# Altium schematic symbol library Main Board.SCHLIB: 63 symbols (part 1 of 3)
Pins are listed as number, name and electrical type; pins without a type are passive.

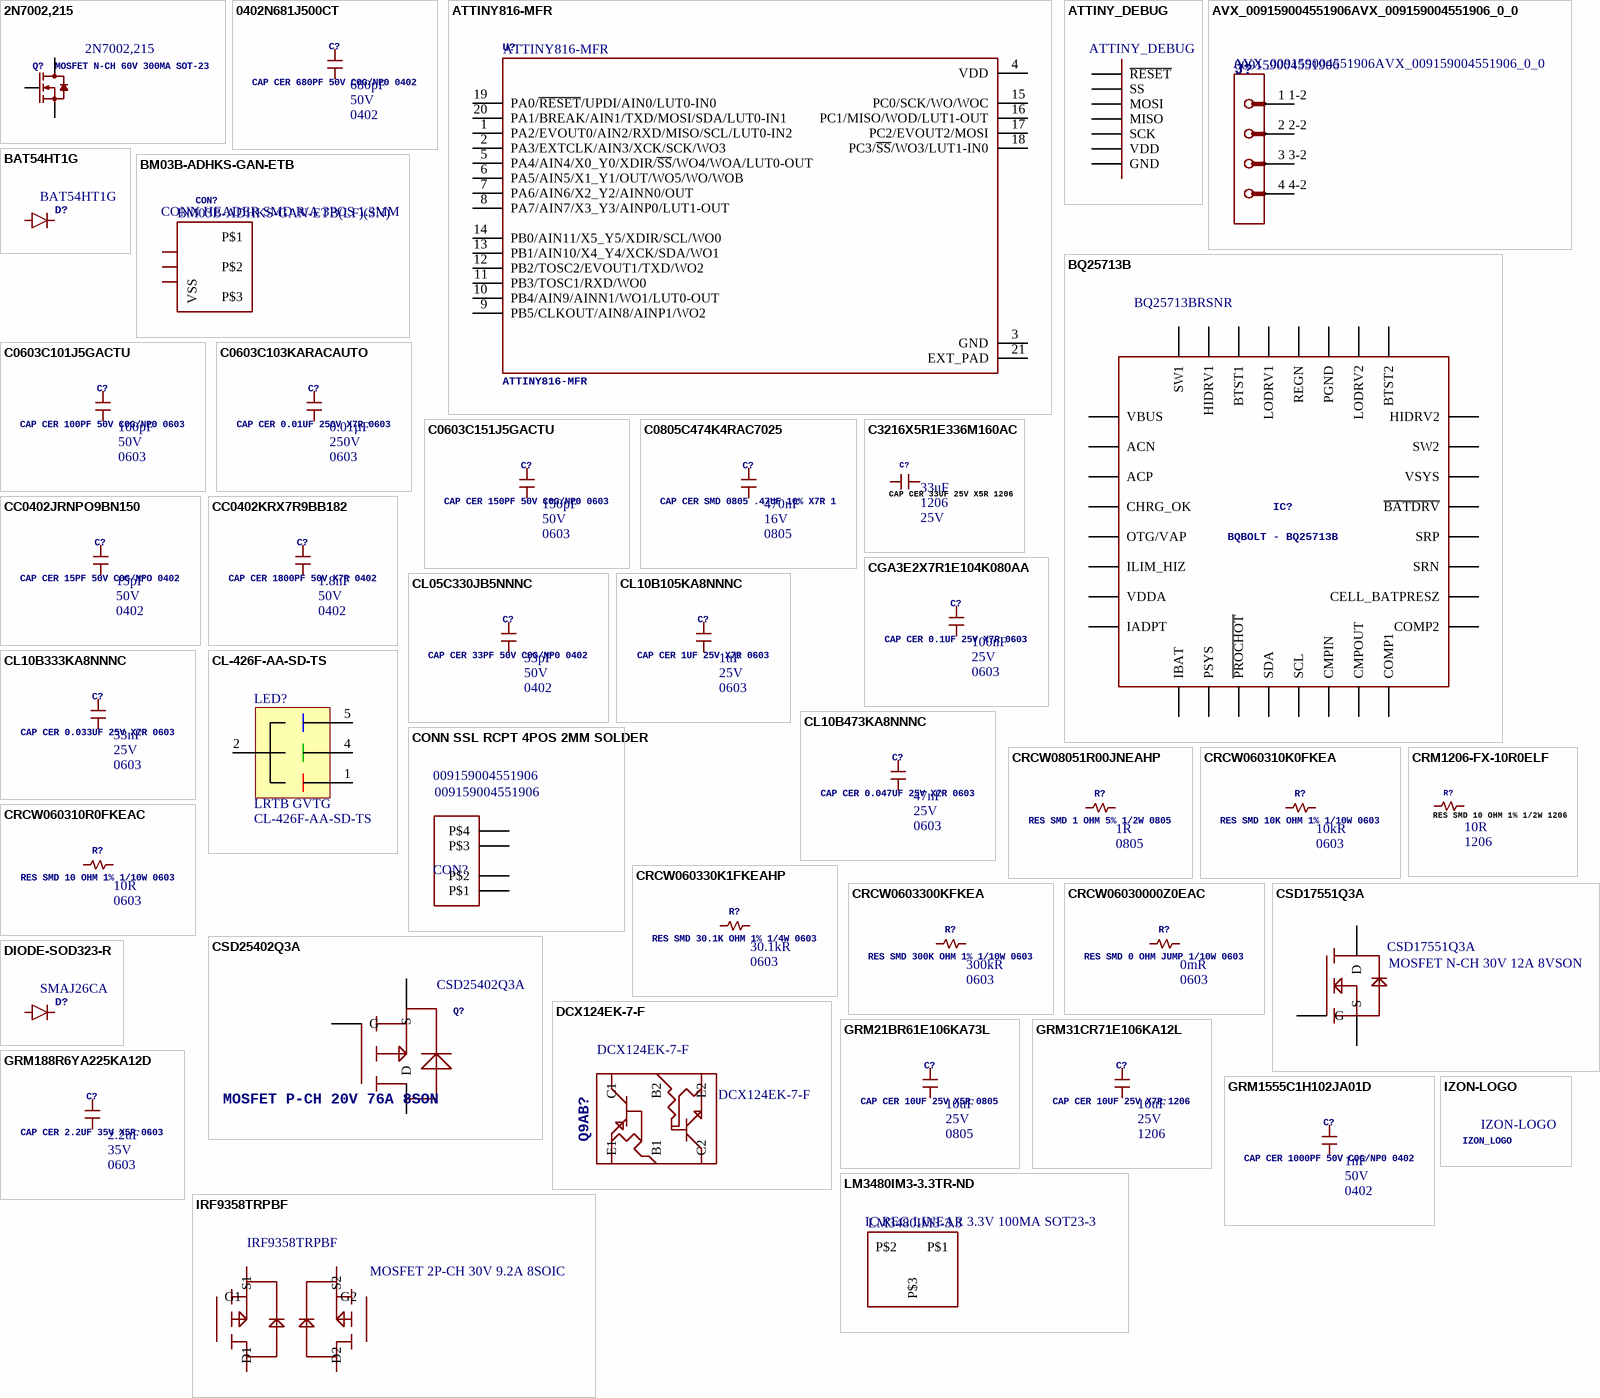
[diagram p0: symbols 2N7002,215 to LM3480IM3-3.3TR-ND]

## 2N7002,215
designator Q?, comment MOSFET N-CH 60V 300MA SOT-23  Manufacturer Part Number: 2N7002,215
N-Channel 60V 300mA (Ta) 830mW (Ta) Surface Mount TO-236AB; Manufacturer: Nexperia; Supplier 1: Digi-Key; Stock 1: 563931; Pricing 1: 1 = 0.25000, 10 = 0.22700, 100 = 0.12690, 500 = 0.06798, 1000 = 0.04623 (USD); RoHS: No; ComponentLink1URL: http://www.farnell.com/datasheets/1499179.pdf?src-supplier=Farnell; ComponentLink1Description: http://www.farnell.com/datasheets/1499179.pdf?src-supplier=Farnell; ComponentLink2URL: http://www.farnell.com/datasheets/1499179.pdf?src-supplier=Newark; ComponentLink2Description: http://www.farnell.com/datasheets/1499179.pdf?src-supplier=Newark; ComponentLink3URL: https://assets.nexperia.com/documents/data-sheet/2N7002.pdf?src-supplier=Digi-Key; ComponentLink3Description: https://assets.nexperia.com/documents/data-sheet/2N7002.pdf?src-supplier=Digi-Key; Supplier Part Number 1: 1727-2764-1-ND
footprint SOT-23
pins: 1 G, 2 S, 3 D

## 0402N681J500CT
designator C?, comment CAP CER 680PF 50V C0G/NP0 0402  Voltage: 50V  Package: 0402  Capacitance: 680pF
680pF ±5% 50V Ceramic Capacitor C0G, NP0 0402 (1005 Metric); Manufacturer: Walsin Technologies; Manufacturer Part Number: 0402N681J500CT; Supplier 1: Digi-Key; Stock 1: 8787; Pricing 1: 1 = 0.10000, 10 = 0.06600, 100 = 0.02940, 500 = 0.02100, 1000 = 0.01650, 2500 = 0.01500, 5000 = 0.01380 (USD); RoHS: Yes; Min Operating Temperature: -55°C; Max Operating Temperature: 125°C; Packaging: Tape and Reel; Tolerance: 5%; Dielectric: C0G; Length: 1mm; Depth: 0.5mm; Radiation Hardening: No; ComponentLink1URL: https://datasheet.ciiva.com/18163/getdatasheetpartid-474151-18163447.pdf?src-supplier=Verical; ComponentLink1Description: https://datasheet.ciiva.com/18163/getdatasheetpartid-474151-18163447.pdf?src-supplier=Verical; Supplier Part Number 1: 1292-1346-1-ND; Case/Package: Ceramic
footprint 0402
pins: P$1, P$2

## ATTINY816-MFR
designator U?
Mcu, 8bit, Pic24fj, 20mhz, Qfn-20; Manufacturer: Microchip; Supplier 1: Digi-Key; Stock 1: 7121; Pricing 1: 1 = 0.73000, 25 = 0.66960, 100 = 0.60770 (USD); RoHS: No; ComponentLink1URL: http://www.farnell.com/datasheets/2182719.pdf?src-supplier=Farnell; ComponentLink1Description: http://www.farnell.com/datasheets/2182719.pdf?src-supplier=Farnell; ComponentLink2URL: http://www.microchip.com/mymicrochip/filehandler.aspx?ddocname=en599406&src-supplier=Digi-Key; ComponentLink2Description: http://www.microchip.com/mymicrochip/filehandler.aspx?ddocname=en599406&src-supplier=Digi-Key; Supplier Part Number 1: ATTINY816-MFRCT-ND; Manufacturer Part Number: ATTINY816-MFR
footprint QFN40P300X300X90-21N
pins: 1 PA2/EVOUT0/AIN2/RXD/MISO/SCL/LUT0-IN2, 2 PA3/EXTCLK/AIN3/XCK/SCK/WO3, 3 GND (power), 4 VDD (power), 5 PA4/AIN4/X0_Y0/XDIR/~{SS}/WO4/WOA/LUT0-OUT, 6 PA5/AIN5/X1_Y1/OUT/WO5/WO/WOB, 7 PA6/AIN6/X2_Y2/AINN0/OUT, 8 PA7/AIN7/X3_Y3/AINP0/LUT1-OUT, 9 PB5/CLKOUT/AIN8/AINP1/WO2, 10 PB4/AIN9/AINN1/WO1/LUT0-OUT, 11 PB3/TOSC1/RXD/WO0, 12 PB2/TOSC2/EVOUT1/TXD/WO2, 13 PB1/AIN10/X4_Y4/XCK/SDA/WO1, 14 PB0/AIN11/X5_Y5/XDIR/SCL/WO0, 15 PC0/SCK/WO/WOC, 16 PC1/MISO/WOD/LUT1-OUT, 17 PC2/EVOUT2/MOSI, 18 PC3/~{SS}/WO3/LUT1-IN0, 19 PA0/~{RESET}/UPDI/AIN0/LUT0-IN0, 20 PA1/BREAK/AIN1/TXD/MOSI/SDA/LUT0-IN1, 21 EXT_PAD (power)

## ATTINY_DEBUG
designator U$?
GateName_1: G$1; SymbolName_1: ATTINY_DEBUG; LibraryName: Roambotics; DeviceSetName: ATTINY_DEBUG
footprint ATTINY_DEBUG
pins: P$1 GND, P$2 VDD, P$3 SCK, P$4 MISO, P$5 MOSI, P$6 SS, P$7 ~{RESET}

## AVX_009159004551906AVX_009159004551906_0_0
designator J?  Manufacturer Part Number: 009159004551906
SSL Connector 4 Position Receptacle Board to Board - Card Edge 0.079" (2.00mm) Solder; Manufacturer: Kyocera AVX; Voltage Rating: 300V; Current Rating: 2A; Mating Cycles: 10; Number of Positions: 4; Pitch: 0.079inch; Row Spacing: 6.5mm; Supplier 1: Digi-Key; Stock 1: 2642; Pricing 1: 1 = 1.01000, 10 = 0.89200, 25 = 0.83960, 50 = 0.80460, 100 = 0.76960, 250 = 0.69960 (USD); RoHS: Yes; Mount: Surface Mount; Contact Material: Copper Alloy; Contact Plating: Gold; Housing Color: White; Housing Material: Nylon; Min Operating Temperature: -40°C; Max Operating Temperature: 120°C; Number of Rows: 1; Packaging: Tape and Reel; Package Quantity: 900; Connector Type: Receptacle; Termination: SMD/SMT; Gender: Receptacle; Number of Contacts: 4; REACH SVHC: No SVHC; ComponentLink1URL: https://datasheet.ciiva.com/29706/topentrycardedge-29706485.pdf?src-supplier=Digi-Key; ComponentLink1Description: https://datasheet.ciiva.com/29706/topentrycardedge-29706485.pdf?src-supplier=Digi-Key; Supplier Part Number 1: 478-8738-1-ND
footprint AVX_009159004551906_0 (Footprint not found)
pins: 1 1-2 1, 2 2-2 2, 3 3-2 3, 4 4-2 4

## BAT54HT1G
designator D?, comment Manufacturer Part Number: BAT54HT1G  (hidden comment: DIODE SCHOTTKY 30V 200MA SOD323)
Diode Schottky 30V 200mA (DC) Surface Mount SOD-323; Manufacturer: ON Semiconductor / Fairchild; Forward Voltage: 800mV; Recovery Time: 5ns; Peak Non-Repetitive Surge Current: 600mA; Element Configuration: Single; Peak Reverse Current: 2uA; Power Dissipation: 200mW; Polarity: Standard; Capacitance: 10pF; Supplier 1: Digi-Key; Stock 1: 899716; Pricing 1: 1 = 0.25000, 10 = 0.20500, 100 = 0.10860, 500 = 0.07148, 1000 = 0.04860 (USD); RoHS: Yes; Mount: Surface Mount; Number of Pins: 2; Contact Plating: Tin; Min Operating Temperature: -55°C; Max Operating Temperature: 150°C; Packaging: Tape and Reel; Forward Current: 200mA; Package Quantity: 3000; Average Rectified Current: 200mA; Reverse Recovery Time: 5ns; Max Repetitive Reverse Voltage (Vrrm): 30V; Max Forward Surge Current (Ifsm): 600mA; Max Reverse Voltage (DC): 30V; Max Surge Current: 600mA; Voltage Rating (DC): 30V; Current Rating: 200mA; Output Current: 200mA; Reverse Voltage: 30V; Max Reverse Leakage Current: 2uA; Length: 1.8mm; Height: 1mm; Width: 1.35mm; Radiation Hardening: No; Lead Free: Lead Free; REACH SVHC: No SVHC; ComponentLink1URL: https://datasheet.ciiva.com/8303/bat54ht1g-8303712.pdf?src-supplier=Avnet; ComponentLink1Description: https://datasheet.ciiva.com/8303/bat54ht1g-8303712.pdf?src-supplier=Avnet; ComponentLink2URL: https://datasheet.ciiva.com/4452/bat54ht1g-104602-4452889.pdf?src-supplier=Mouser; ComponentLink2Description: https://datasheet.ciiva.com/4452/bat54ht1g-104602-4452889.pdf?src-supplier=Mouser; ComponentLink3URL: https://datasheet.ciiva.com/30479/0900766b811a63a9-30479442.pdf?src-supplier=RSComponents; ComponentLink3Description: https://datasheet.ciiva.com/30479/0900766b811a63a9-30479442.pdf?src-supplier=RSComponents; ComponentLink4URL: https://datasheet.ciiva.com/1240/1747983-1240762.pdf?src-supplier=Newark; ComponentLink4Description: https://datasheet.ciiva.com/1240/1747983-1240762.pdf?src-supplier=Newark; ComponentLink5URL: https://datasheet.ciiva.com/34301/806549-34301562.pdf?src-supplier=Jameco; ComponentLink5Description: https://datasheet.ciiva.com/34301/806549-34301562.pdf?src-supplier=Jameco; ComponentLink6URL: https://datasheet.ciiva.com/4714/bat54ht1-d-72881-4714706.pdf?src-supplier=Mouser; ComponentLink6Description: https://datasheet.ciiva.com/4714/bat54ht1-d-72881-4714706.pdf?src-supplier=Mouser; ComponentLink7URL: https://datasheet.ciiva.com/46429/1727620-46429206.pdf?src-supplier=Element14; ComponentLink7Description: https://datasheet.ciiva.com/46429/1727620-46429206.pdf?src-supplier=Element14; ComponentLink8URL: https://datasheet.ciiva.com/915/bat54ht1-d-915443.pdf?src-supplier=Digi-Key; ComponentLink8Description: https://datasheet.ciiva.com/915/bat54ht1-d-915443.pdf?src-supplier=Digi-Key; ComponentLink9URL: https://datasheet.ciiva.com/910/bat54ht1g-910497.pdf?src-supplier=Digi-Key; ComponentLink9Description: https://datasheet.ciiva.com/910/bat54ht1g-910497.pdf?src-supplier=Digi-Key; ComponentLink10URL: https://datasheet.ciiva.com/910/bat54ht1g-910498.pdf?src-supplier=Digi-Key; ComponentLink10Description: https://datasheet.ciiva.com/910/bat54ht1g-910498.pdf?src-supplier=Digi-Key; ComponentLink11URL: https://datasheet.ciiva.com/17020/bat54ht1g-17020445.pdf?src-supplier=Future+Electronics; ComponentLink11Description: https://datasheet.ciiva.com/17020/bat54ht1g-17020445.pdf?src-supplier=Future+Electronics; ComponentLink12URL: https://datasheet.ciiva.com/8303/bat54ht1g-8303645.pdf?src-supplier=Avnet; ComponentLink12Description: https://datasheet.ciiva.com/8303/bat54ht1g-8303645.pdf?src-supplier=Avnet; ComponentLink13URL: https://datasheet.ciiva.com/8294/bat54ht1-d-8294645.pdf?src-supplier=Avnet; ComponentLink13Description: https://datasheet.ciiva.com/8294/bat54ht1-d-8294645.pdf?src-supplier=Avnet; ComponentLink14URL: https://datasheet.ciiva.com/915/bat54ht1-d-915445.pdf?src-supplier=Digi-Key; ComponentLink14Description: https://datasheet.ciiva.com/915/bat54ht1-d-915445.pdf?src-supplier=Digi-Key; ComponentLink15URL: https://datasheet.ciiva.com/915/bat54ht1-d-915444.pdf?src-supplier=Digi-Key; ComponentLink15Description: https://datasheet.ciiva.com/915/bat54ht1-d-915444.pdf?src-supplier=Digi-Key; ComponentLink16URL: https://datasheet.ciiva.com/910/bat54ht1g-910499.pdf?src-supplier=Digi-Key; ComponentLink16Description: https://datasheet.ciiva.com/910/bat54ht1g-910499.pdf?src-supplier=Digi-Key; ComponentLink17URL: https://datasheet.ciiva.com/1180/bat54ht1-d-1180251.pdf?src-supplier=Element14; ComponentLink17Description: https://datasheet.ciiva.com/1180/bat54ht1-d-1180251.pdf?src-supplier=Element14; ComponentLink18URL: https://datasheet.ciiva.com/1180/bat54ht1-d-1180252.pdf?src-supplier=Element14; ComponentLink18Description: https://datasheet.ciiva.com/1180/bat54ht1-d-1180252.pdf?src-supplier=Element14; ComponentLink19URL: https://datasheet.ciiva.com/48686/001262925-da-01-en-diode-schottky-30v-bat54ht1g-sod-323-fsc-48686266.pdf?src-supplier=Conrad; ComponentLink19Description: https://datasheet.ciiva.com/48686/001262925-da-01-en-diode-schottky-30v-bat54ht1g-sod-323-fsc-48686266.pdf?src-supplier=Conrad; Supplier Part Number 1: BAT54HT1GOSCT-ND
footprint SOD323-R
pins: A, C

## BM03B-ADHKS-GAN-ETB
designator CON?, comment CONN HEADER SMD R/A 3POS 1.3MM  Manufacturer Part Number: BM03B-ADHKS-GAN-ETB(LF)(SN)
Connector Header Surface Mount, Right Angle 3 position 0.051" (1.30mm); Manufacturer: JST; Number of Positions: 3; Pitch: 0.051inch; Supplier 1: Digi-Key; Stock 1: 51773; Pricing 1: 1 = 0.52000, 10 = 0.48300, 100 = 0.37060, 500 = 0.32224, 1000 = 0.26585 (USD); RoHS: Yes; Mount: Surface Mount; Contact Plating: Tin; Color: White; Packaging: Tape and Reel; Number of Rows: 1; Termination: Solder; Fastening Type: Detent; ComponentLink1URL: http://www.jst-mfg.com/product/pdf/eng/eADH.pdf?src-supplier=Digi-Key; ComponentLink1Description: http://www.jst-mfg.com/product/pdf/eng/eADH.pdf?src-supplier=Digi-Key; Supplier Part Number 1: 455-2900-1-ND
footprint BM03B-ADHKS-GAN-ETB
pins: P$1, P$2, P$3, P$4 P$5 VSS

## BQ25713B
designator IC?, comment BQBOLT - BQ25713B  Manufacturer Part Number: BQ25713BRSNR
Battery Battery Monitor IC Multi-Chemistry 32-WQFN (4x4); Manufacturer: Texas Instruments; Supplier 1: Digi-Key; Stock 1: 1003; Pricing 1: 1 = 5.64000, 10 = 5.06900, 100 = 4.15360, 500 = 3.53586, 1000 = 2.98206 (USD); RoHS: No; Supplier Part Number 1: 296-50952-1-ND
footprint S-PWQFN-N32
pins: P$1 VBUS, P$2 ACN, P$3 ACP, P$4 CHRG_OK, P$5 OTG/VAP, P$6 ILIM_HIZ, P$7 VDDA, P$8 IADPT, P$9 IBAT, P$10 PSYS, P$11 ~{PROCHOT}, P$12 SDA, P$13 SCL, P$14 CMPIN, P$15 CMPOUT, P$16 COMP1, P$17 COMP2, P$18 CELL_BATPRESZ, P$19 SRN, P$20 SRP, P$21 ~{BATDRV}, P$22 VSYS, P$23 SW2, P$24 HIDRV2, P$25 BTST2, P$26 LODRV2, P$27 P$33 PGND, P$28 REGN, P$29 LODRV1, P$30 BTST1, P$31 HIDRV1, P$32 SW1

## C0603C101J5GACTU
designator C?, comment CAP CER 100PF 50V C0G/NP0 0603  Voltage: 50V  Case/Package: 0603  Capacitance: 100pF
100pF ±5% 50V Ceramic Capacitor C0G, NP0 0603 (1608 Metric); Manufacturer: KEMET; Manufacturer Part Number: C0603C101J5GACTU; Description: Capacitor: ceramic; MLCC; 100pF; 50VDC; C0G; ±5%; SMD; 0603; Dissipation Factor: 0.1%; ComponentLink1URL: https://datasheet.ciiva.com/14906/partnumbering-e-01-14906490.pdf?src-supplier=Digi-Key; ComponentLink1Description: https://datasheet.ciiva.com/14906/partnumbering-e-01-14906490.pdf?src-supplier=Digi-Key; ComponentLink2URL: https://datasheet.ciiva.com/14906/partnumbering-e-01-14906491.pdf?src-supplier=Digi-Key; ComponentLink2Description: https://datasheet.ciiva.com/14906/partnumbering-e-01-14906491.pdf?src-supplier=Digi-Key; ComponentLink3URL: https://datasheet.ciiva.com/14906/partnumbering-e-01-14906492.pdf?src-supplier=Digi-Key; ComponentLink3Description: https://datasheet.ciiva.com/14906/partnumbering-e-01-14906492.pdf?src-supplier=Digi-Key; Supplier 1: Digi-Key; Stock 1: 4733988; Pricing 1: 1 = 0.15000, 10 = 0.11000, 100 = 0.05150, 500 = 0.03614, 1000 = 0.02992 (USD); RoHS: Yes; Mount: Surface Mount; Case Code (Imperial): 0603; Case Code (Metric): 1608; Min Operating Temperature: -55°C; Max Operating Temperature: 125°C; Tolerance: 5%; Packaging: Tape and Reel; Package Quantity: 4000; Voltage Rating: 50V; Voltage Rating (DC): 50V; Dielectric: NP0; Termination: SMD/SMT; Length: 1.6mm; Height: 0.8mm; Width: 0.8mm; Lead Pitch: 0.7mm; Depth: 0.8mm; Radiation Hardening: No; ComponentLink4URL: https://datasheet.ciiva.com/28645/1789732-28645525.pdf?src-supplier=Element14; ComponentLink4Description: https://datasheet.ciiva.com/28645/1789732-28645525.pdf?src-supplier=Element14; ComponentLink5URL: https://datasheet.ciiva.com/6126/f9080b-0402-series-c0g-6126680.pdf?src-supplier=Farnell; ComponentLink5Description: https://datasheet.ciiva.com/6126/f9080b-0402-series-c0g-6126680.pdf?src-supplier=Farnell; ComponentLink6URL: https://datasheet.ciiva.com/26847/getdatasheetpartid-315853-26847483.pdf?src-supplier=Verical; ComponentLink6Description: https://datasheet.ciiva.com/26847/getdatasheetpartid-315853-26847483.pdf?src-supplier=Verical; ComponentLink7URL: https://datasheet.ciiva.com/13394/kem-c1003-c0g-smd-356956-13394447.pdf?src-supplier=Mouser; ComponentLink7Description: https://datasheet.ciiva.com/13394/kem-c1003-c0g-smd-356956-13394447.pdf?src-supplier=Mouser; Supplier Part Number 1: 399-1061-1-ND
footprint 0603
pins: P$1, P$2

## C0603C103KARACAUTO
designator C?, comment CAP CER 0.01UF 250V X7R 0603  Voltage: 250V  Capacitance: 0.01µF  Package: 0603
0.01µF ±10% 250V Ceramic Capacitor X7R 0603 (1608 Metric); Manufacturer: KEMET; Manufacturer Part Number: C0603C103KARACAUTO; Supplier 1: Digi-Key; Stock 1: 11816; Pricing 1: 1 = 1.04000, 10 = 0.78800, 100 = 0.56390, 500 = 0.43658, 1000 = 0.37595 (USD); RoHS: No; ComponentLink1URL: https://api.kemet.com/component-edge/download/datasheet/C0603C103KARACAUTO.pdf?src-supplier=Digi-Key; ComponentLink1Description: https://api.kemet.com/component-edge/download/datasheet/C0603C103KARACAUTO.pdf?src-supplier=Digi-Key; Supplier Part Number 1: 399-17960-1-ND
footprint 0603
pins: P$1, P$2

## C0603C151J5GACTU
designator C?, comment CAP CER 150PF 50V C0G/NP0 0603  Voltage: 50V  Capacitance: 150pF  Case/Package: 0603
150pF ±5% 50V Ceramic Capacitor C0G, NP0 0603 (1608 Metric); Manufacturer: KEMET; Manufacturer Part Number: C0603C151J5GAC7867; Temperature Coefficient: 30ppm/°C; Supplier 1: Digi-Key; Stock 1: 75484; Pricing 1: 1 = 0.10000, 10 = 0.04600, 100 = 0.02030, 500 = 0.01450, 1000 = 0.01139 (USD); RoHS: Yes; Mount: Surface Mount; Dielectric Material: Ceramic; Min Operating Temperature: -55°C; Max Operating Temperature: 125°C; Packaging: Tape and Reel; Tolerance: 5%; Voltage Rating (DC): 50V; Dielectric: C0G; Termination: SMD/SMT; Length: 1.6mm; Height: 0.8mm; Depth: 0.8mm; Radiation Hardening: No; Lead Free: Lead Free; ComponentLink1URL: https://datasheet.ciiva.com/39122/kem-c1003-c0g-smd-39122905.pdf?src-supplier=Onlinecomponents.com; ComponentLink1Description: https://datasheet.ciiva.com/39122/kem-c1003-c0g-smd-39122905.pdf?src-supplier=Onlinecomponents.com; Supplier Part Number 1: 399-1063-1-ND
footprint 0603
pins: P$1, P$2

## C0805C474K4RAC7025
designator C?, comment CAP CER SMD 0805 .47UF 10% X7R 1  Voltage Rating (DC): 16V  Capacitance: 470nF  Case/Package: 0805
0.47µF ±10% 16V Ceramic Capacitor X7R 0805 (2012 Metric); Manufacturer: KEMET; Manufacturer Part Number: C0805C474K4RAC7025; Supplier 1: Digi-Key; Stock 1: 62; Pricing 1: 1 = 0.31000, 10 = 0.21200, 100 = 0.10750, 500 = 0.07356, 1000 = 0.06508 (USD); RoHS: Yes; Mount: Surface Mount; Dielectric Material: Ceramic; Min Operating Temperature: -55°C; Max Operating Temperature: 125°C; Tolerance: 10%; Dielectric: X7R; Packaging: Tape and Reel; Length: 2mm; Height: 0.9mm; Depth: 1.25mm; Radiation Hardening: No; ComponentLink1URL: http://www.kemet.com/kemet/web/homepage/kechome.nsf/weben/C4DA2DA1D1C9D3C3CA2570A50016092D/$file/KEM_C1002_X7R_SMD.pdf?src-supplier=Avnet; ComponentLink1Description: http://www.kemet.com/kemet/web/homepage/kechome.nsf/weben/C4DA2DA1D1C9D3C3CA2570A50016092D/$file/KEM_C1002_X7R_SMD.pdf?src-supplier=Avnet; ComponentLink2URL: https://api.kemet.com/component-edge/download/datasheet/C0805C474K4RAC7025.pdf?src-supplier=Digi-Key; ComponentLink2Description: https://api.kemet.com/component-edge/download/datasheet/C0805C474K4RAC7025.pdf?src-supplier=Digi-Key; ComponentLink3URL: http://www.kemet.com/kemet/web/homepage/kechome.nsf/weben/C4DA2DA1D1C9D3C3CA2570A50016092D/$file/KEM_C1002_X7R_SMD.pdf?src-supplier=Avnet+Europe; ComponentLink3Description: http://www.kemet.com/kemet/web/homepage/kechome.nsf/weben/C4DA2DA1D1C9D3C3CA2570A50016092D/$file/KEM_C1002_X7R_SMD.pdf?src-supplier=Avnet+Europe; Supplier Part Number 1: 399-17638-1-ND
footprint 0603
pins: P$1, P$2

## C3216X5R1E336M160AC
designator C?, comment CAP CER 33UF 25V X5R 1206  Voltage Rating: 25V  Case/Package: 1206  Capacitance: 33uF
33µF ±20% 25V Ceramic Capacitor X5R 1206 (3216 Metric); Manufacturer: TDK; Manufacturer Part Number: C3216X5R1E336M160AC; Supplier 1: Digi-Key; Description: CAP CER 33UF 25V X5R 1206; Stock 1: 0; Pricing 1: 1 = 1.31000, 10 = 1.03500, 100 = 0.77630, 500 = 0.58650, 1000 = 0.51750 (USD); RoHS: Yes; Mount: Surface Mount; Weight: 0.000571oz; Case Code (Metric): 3216; Case Code (Imperial): 1206; Dielectric Material: Ceramic; Min Operating Temperature: -55°C; Max Operating Temperature: 85°C; Package Quantity: 1; Tolerance: 20%; Packaging: Tape and Reel; Voltage Rating (DC): 25V; Dielectric: X5R; Termination: SMD/SMT; Composition: Ceramic; Length: 3.2mm; Width: 0.063inch; Depth: 1.6mm; Thickness: 1.6mm; REACH SVHC: No SVHC; Lead Free: Lead Free; ComponentLink1URL: https://datasheet.ciiva.com/24216/c3216x5r1e336m160ac-265051-24216512.pdf?src-supplier=Mouser; ComponentLink1Description: https://datasheet.ciiva.com/24216/c3216x5r1e336m160ac-265051-24216512.pdf?src-supplier=Mouser; ComponentLink2URL: https://datasheet.ciiva.com/6285/tdkmlcccaprange-6285278.pdf?src-supplier=Digi-Key; ComponentLink2Description: https://datasheet.ciiva.com/6285/tdkmlcccaprange-6285278.pdf?src-supplier=Digi-Key; Supplier Part Number 1: 445-8046-1-ND
footprint 1206
pins: P$1, P$2

## CC0402JRNPO9BN150
designator C?, comment CAP CER 15PF 50V C0G/NPO 0402  Voltage Rating: 50V  Capacitance: 15pF  Case/Package: 0402
15pF ±5% 50V Ceramic Capacitor C0G, NP0 0402 (1005 Metric); Manufacturer: Yageo; Manufacturer Part Number: CC0402JRNPO9BN150; Insulation Resistance: 100GR; Supplier 1: Digi-Key; Stock 1: 1709551; Pricing 1: 1 = 0.10000, 10 = 0.02900, 100 = 0.01280, 500 = 0.00912, 1000 = 0.00716, 2500 = 0.00651, 5000 = 0.00599 (USD); RoHS: Yes; Mount: Surface Mount; Number of Pins: 2; Case Code (Metric): 1005; Case Code (Imperial): 0402; Dielectric Material: Ceramic; Min Operating Temperature: -55°C; Max Operating Temperature: 125°C; Tolerance: 5%; Dielectric: C0G; Voltage Rating (DC): 50V; Package Quantity: 1; Packaging: Tape and Reel; Termination: SMD/SMT; Composition: Ceramic; Voltage: 50V; Length: 1mm; Height: 0.5mm; Width: 0.02inch; Thickness: 0.022inch; Depth: 0.5mm; Radiation Hardening: No; REACH SVHC: No SVHC; Lead Free: Lead Free; ComponentLink1URL: https://datasheet.ciiva.com/5789/1443161-5789504.pdf?src-supplier=Farnell; ComponentLink1Description: https://datasheet.ciiva.com/5789/1443161-5789504.pdf?src-supplier=Farnell; ComponentLink2URL: https://datasheet.ciiva.com/26862/getdatasheetpartid-403449-26862595.pdf?src-supplier=Verical; ComponentLink2Description: https://datasheet.ciiva.com/26862/getdatasheetpartid-403449-26862595.pdf?src-supplier=Verical; ComponentLink3URL: https://datasheet.ciiva.com/144/mlccorderingcode-144001.pdf?src-supplier=Digi-Key; ComponentLink3Description: https://datasheet.ciiva.com/144/mlccorderingcode-144001.pdf?src-supplier=Digi-Key; ComponentLink4URL: https://datasheet.ciiva.com/144/mlccorderingcode-144002.pdf?src-supplier=Digi-Key; ComponentLink4Description: https://datasheet.ciiva.com/144/mlccorderingcode-144002.pdf?src-supplier=Digi-Key; ComponentLink5URL: https://datasheet.ciiva.com/144/mlccorderingcode-144003.pdf?src-supplier=Digi-Key; ComponentLink5Description: https://datasheet.ciiva.com/144/mlccorderingcode-144003.pdf?src-supplier=Digi-Key; ComponentLink6URL: https://datasheet.ciiva.com/13386/upy-gp-np0-16v-to-50v-8-13386330.pdf?src-supplier=Mouser; ComponentLink6Description: https://datasheet.ciiva.com/13386/upy-gp-np0-16v-to-50v-8-13386330.pdf?src-supplier=Mouser; ComponentLink7URL: https://datasheet.ciiva.com/11587/upy-gp-np0-16v-to-50v-8-11587085.pdf?src-supplier=Avnet; ComponentLink7Description: https://datasheet.ciiva.com/11587/upy-gp-np0-16v-to-50v-8-11587085.pdf?src-supplier=Avnet; Supplier Part Number 1: 311-1017-1-ND
footprint 0402
pins: P$1, P$2

## CC0402KRX7R9BB182
designator C?, comment CAP CER 1800PF 50V X7R 0402  Voltage Rating: 50V  Capacitance: 1.8nF  Case/Package: 0402
1800pF ±10% 50V Ceramic Capacitor X7R 0402 (1005 Metric); Manufacturer: Yageo; Manufacturer Part Number: CC0402KRX7R9BB182; Supplier 1: Digi-Key; Stock 1: 92971; Pricing 1: 1 = 0.10000, 10 = 0.03400, 100 = 0.01530, 500 = 0.01096, 1000 = 0.00860, 2500 = 0.00782, 5000 = 0.00720 (USD); RoHS: Yes; Mount: Surface Mount; Number of Pins: 2; Case Code (Imperial): 0402; Case Code (Metric): 1005; Min Operating Temperature: -55°C; Max Operating Temperature: 125°C; Tolerance: 10%; Dielectric: X7R; Package Quantity: 10000; Voltage Rating (DC): 50V; Packaging: Tape and Reel; Termination: SMD/SMT; Composition: Ceramic; Length: 1mm; Height: 0.5mm; Width: 0.5mm; Thickness: 0.022inch; Depth: 0.5mm; Radiation Hardening: No; Lead Free: Lead Free; Halogen Free: Halogen Free; ComponentLink1URL: https://datasheet.ciiva.com/17437/upy-gphc-x7r-6-3v-to-50v-8-17437181.pdf?src-supplier=Avnet+Europe; ComponentLink1Description: https://datasheet.ciiva.com/17437/upy-gphc-x7r-6-3v-to-50v-8-17437181.pdf?src-supplier=Avnet+Europe; Supplier Part Number 1: 311-1721-1-ND
footprint 0402
pins: P$1, P$2

## CGA3E2X7R1E104K080AA
designator C?, comment CAP CER 0.1UF 25V X7R 0603  Voltage Rating: 25V  Capacitance: 100nF  Case/Package: 0603
0.1µF ±10% 25V Ceramic Capacitor X7R 0603 (1608 Metric); Manufacturer: TDK; Manufacturer Part Number: CGA3E2X7R1E104K080AA; Supplier 1: Digi-Key; Stock 1: 2114238; Pricing 1: 1 = 0.10000, 10 = 0.05700, 100 = 0.02530, 500 = 0.01810, 1000 = 0.01422 (USD); RoHS: Yes; Mount: Surface Mount; Weight: 7.1E-05oz; Case Code (Metric): 1608; Case Code (Imperial): 0603; Min Operating Temperature: -55°C; Max Operating Temperature: 125°C; Packaging: Tape and Reel; Tolerance: 10%; Dielectric: X7R; Termination: SMD/SMT; Package Quantity: 1; Voltage Rating (DC): 25V; Composition: Ceramic; Length: 1.6mm; Height: 0.8mm; Depth: 0.8mm; Width: 0.031inch; Thickness: 0.035inch; Ratings: AEC-Q200; Lead Free: Lead Free; REACH SVHC: No SVHC; ComponentLink1URL: https://datasheet.ciiva.com/24220/cga3e2x7r1e104k080aa-265934-24220022.pdf?src-supplier=Mouser; ComponentLink1Description: https://datasheet.ciiva.com/24220/cga3e2x7r1e104k080aa-265934-24220022.pdf?src-supplier=Mouser; ComponentLink2URL: https://datasheet.ciiva.com/22725/1735392-22725638.pdf?src-supplier=Element14; ComponentLink2Description: https://datasheet.ciiva.com/22725/1735392-22725638.pdf?src-supplier=Element14; ComponentLink3URL: https://datasheet.ciiva.com/22725/1735392-22725639.pdf?src-supplier=Element14; ComponentLink3Description: https://datasheet.ciiva.com/22725/1735392-22725639.pdf?src-supplier=Element14; ComponentLink4URL: https://datasheet.ciiva.com/16427/mlccspec-automotive-general-midvoltage-en-16427320.pdf?src-supplier=Future+Electronics; ComponentLink4Description: https://datasheet.ciiva.com/16427/mlccspec-automotive-general-midvoltage-en-16427320.pdf?src-supplier=Future+Electronics; ComponentLink5URL: https://datasheet.ciiva.com/23803/1735392-23803082.pdf?src-supplier=Newark; ComponentLink5Description: https://datasheet.ciiva.com/23803/1735392-23803082.pdf?src-supplier=Newark; Supplier Part Number 1: 445-5667-1-ND
footprint 0603
pins: P$1, P$2

## CL05C330JB5NNNC
designator C?, comment CAP CER 33PF 50V C0G/NP0 0402  Voltage: 50V  Capacitance: 33pF  Case/Package: 0402
33pF ±5% 50V Ceramic Capacitor C0G, NP0 0402 (1005 Metric); Manufacturer: Samsung; Manufacturer Part Number: CL05C330JB5NNNC; Temperature Coefficient: 300ppm/°C; ComponentLink1URL: https://datasheet.ciiva.com/25806/cl05c120jb5nnnc-25806484.pdf?src-supplier=Digi-Key; ComponentLink1Description: https://datasheet.ciiva.com/25806/cl05c120jb5nnnc-25806484.pdf?src-supplier=Digi-Key; ComponentLink2URL: https://datasheet.ciiva.com/26838/getdatasheetpartid-658047-26838280.pdf?src-supplier=Verical; ComponentLink2Description: https://datasheet.ciiva.com/26838/getdatasheetpartid-658047-26838280.pdf?src-supplier=Verical; ComponentLink3URL: https://datasheet.ciiva.com/29198/458703-da-01-en-vs-kondensator-0402-29198421.pdf?src-supplier=Conrad; ComponentLink3Description: https://datasheet.ciiva.com/29198/458703-da-01-en-vs-kondensator-0402-29198421.pdf?src-supplier=Conrad; ComponentLink4URL: https://datasheet.ciiva.com/16449/cl05b104kq5nnnc-16449055.pdf?src-supplier=Future+Electronics; ComponentLink4Description: https://datasheet.ciiva.com/16449/cl05b104kq5nnnc-16449055.pdf?src-supplier=Future+Electronics; Supplier 1: Digi-Key; Stock 1: 11933047; Pricing 1: 1 = 0.10000, 10 = 0.02300, 100 = 0.01040, 500 = 0.00742, 1000 = 0.00583, 2500 = 0.00530, 5000 = 0.00488 (USD); RoHS: Yes; Mount: Surface Mount; Case Code (Metric): 1005; Case Code (Imperial): 0402; Material: Ceramic; Contact Plating: Tin; Min Operating Temperature: -55°C; Max Operating Temperature: 125°C; Package Quantity: 1; Packaging: Tape and Reel; Tolerance: 5%; Voltage Rating: 50V; Dielectric: C0G; Voltage Rating (DC): 50V; Length: 1mm; Height: 0.5mm; Width: 0.02inch; Thickness: 0.022inch; Depth: 0.5mm; Radiation Hardening: No; Lead Free: Lead Free; ComponentLink5URL: https://datasheet.ciiva.com/15195/getdatasheetpartid-355282-15195687.pdf?src-supplier=Verical; ComponentLink5Description: https://datasheet.ciiva.com/15195/getdatasheetpartid-355282-15195687.pdf?src-supplier=Verical; ComponentLink6URL: https://datasheet.ciiva.com/29198/458594-da-01-en-vs-kondensator-0402-29198402.pdf?src-supplier=Conrad; ComponentLink6Description: https://datasheet.ciiva.com/29198/458594-da-01-en-vs-kondensator-0402-29198402.pdf?src-supplier=Conrad; Supplier Part Number 1: 1276-1272-1-ND
footprint 0402
pins: P$1, P$2

## CL10B105KA8NNNC
designator C?, comment CAP CER 1UF 25V X7R 0603  Voltage: 25V  Capacitance: 1uF  Case/Package: 0603
1µF ±10% 25V Ceramic Capacitor X7R 0603 (1608 Metric); Manufacturer: Samsung; Manufacturer Part Number: CL10B105KA8NNNC; Supplier 1: Digi-Key; Stock 1: 3906966; Pricing 1: 1 = 0.10000, 10 = 0.06000, 100 = 0.02670, 500 = 0.01904, 1000 = 0.01496 (USD); RoHS: Yes; Mount: Surface Mount; Case Code (Metric): 1608; Case Code (Imperial): 0603; Contact Plating: Tin; Min Operating Temperature: -55°C; Max Operating Temperature: 125°C; Tolerance: 10%; Dielectric: X7R; Packaging: Tape and Reel; Voltage Rating: 25V; Package Quantity: 1; Length: 1.6mm; Height: 0.8mm; Width: 0.031inch; Thickness: 0.035inch; Depth: 0.8mm; Radiation Hardening: No; ComponentLink1URL: https://datasheet.ciiva.com/16449/cl10b105ka8nnnc-16449544.pdf?src-supplier=Future+Electronics; ComponentLink1Description: https://datasheet.ciiva.com/16449/cl10b105ka8nnnc-16449544.pdf?src-supplier=Future+Electronics; ComponentLink2URL: https://datasheet.ciiva.com/15195/getdatasheetpartid-359554-15195726.pdf?src-supplier=Verical; ComponentLink2Description: https://datasheet.ciiva.com/15195/getdatasheetpartid-359554-15195726.pdf?src-supplier=Verical; Supplier Part Number 1: 1276-1184-1-ND
footprint 0603
pins: P$1, P$2

## CL10B333KA8NNNC
designator C?, comment CAP CER 0.033UF 25V X7R 0603  Voltage Rating: 25V  Capacitance: 33nF  Case/Package: 0603
0.033µF ±10% 25V Ceramic Capacitor X7R 0603 (1608 Metric); Manufacturer: Samsung; Manufacturer Part Number: CL10B333KA8NNNC; Supplier 1: Digi-Key; Stock 1: 386545; Pricing 1: 1 = 0.10000, 10 = 0.06100, 100 = 0.02720, 500 = 0.01944, 1000 = 0.01528 (USD); RoHS: Yes; Mount: Surface Mount; Case Code (Metric): 1608; Case Code (Imperial): 0603; Min Operating Temperature: -55°C; Max Operating Temperature: 125°C; Tolerance: 10%; Dielectric: X7R; Package Quantity: 1; Packaging: Tape and Reel; Voltage Rating (DC): 25V; Length: 1.6mm; Height: 0.8mm; Width: 0.031inch; Thickness: 0.035inch; Depth: 0.8mm; Radiation Hardening: No; Lead Free: Lead Free; ComponentLink1URL: https://datasheet.ciiva.com/26838/getdatasheetpartid-745367-26838459.pdf?src-supplier=Verical; ComponentLink1Description: https://datasheet.ciiva.com/26838/getdatasheetpartid-745367-26838459.pdf?src-supplier=Verical; ComponentLink2URL: https://datasheet.ciiva.com/25781/cl10b333ka8nnnc-25781520.pdf?src-supplier=Digi-Key; ComponentLink2Description: https://datasheet.ciiva.com/25781/cl10b333ka8nnnc-25781520.pdf?src-supplier=Digi-Key; ComponentLink3URL: https://datasheet.ciiva.com/16218/cl05b104kq5nnnc-16218987.pdf?src-supplier=Future+Electronics; ComponentLink3Description: https://datasheet.ciiva.com/16218/cl05b104kq5nnnc-16218987.pdf?src-supplier=Future+Electronics; Supplier Part Number 1: 1276-2038-1-ND
footprint 0603
pins: P$1, P$2

## CL10B473KA8NNNC
designator C?, comment CAP CER 0.047UF 25V X7R 0603  Voltage: 25V  Capacitance: 47nF  Case/Package: 0603
0.047µF ±10% 25V Ceramic Capacitor X7R 0603 (1608 Metric); Manufacturer: Samsung; Manufacturer Part Number: CL10B473KA8NNNC; Supplier 1: Digi-Key; Stock 1: 114785; Pricing 1: 1 = 0.10000, 10 = 0.04600, 100 = 0.02030, 500 = 0.01450, 1000 = 0.01139 (USD); RoHS: Yes; Mount: Surface Mount; Case Code (Metric): 1608; Case Code (Imperial): 0603; Contact Plating: Tin; Min Operating Temperature: -55°C; Max Operating Temperature: 125°C; Tolerance: 10%; Dielectric: X7R; Packaging: Tape and Reel; Package Quantity: 1; Voltage Rating: 25V; Length: 1.6mm; Height: 0.8mm; Width: 0.031inch; Thickness: 0.035inch; Depth: 0.8mm; Radiation Hardening: No; ComponentLink1URL: https://datasheet.ciiva.com/15195/getdatasheetpartid-355183-15195762.pdf?src-supplier=Verical; ComponentLink1Description: https://datasheet.ciiva.com/15195/getdatasheetpartid-355183-15195762.pdf?src-supplier=Verical; ComponentLink2URL: https://datasheet.ciiva.com/25781/cl10b473ka8nnnc-25781573.pdf?src-supplier=Digi-Key; ComponentLink2Description: https://datasheet.ciiva.com/25781/cl10b473ka8nnnc-25781573.pdf?src-supplier=Digi-Key; ComponentLink3URL: https://datasheet.ciiva.com/16202/cl05b104kq5nnnc-16202871.pdf?src-supplier=Future+Electronics; ComponentLink3Description: https://datasheet.ciiva.com/16202/cl05b104kq5nnnc-16202871.pdf?src-supplier=Future+Electronics; ComponentLink4URL: https://datasheet.ciiva.com/26310/mlcc-catalogdownload2013-eng-26310264.pdf?src-supplier=Distrelec; ComponentLink4Description: https://datasheet.ciiva.com/26310/mlcc-catalogdownload2013-eng-26310264.pdf?src-supplier=Distrelec; Supplier Part Number 1: 1276-2073-1-ND
footprint 0603
pins: P$1, P$2

## CL-426F-AA-SD-TS
designator LED?, comment LRTB GVTG  Manufacturer Part Number: CL-426F-AA-SD-TS
TRICOLOR SIDE FIRING 2.8 X 0.85; Manufacturer: Citizen; Color: Red, Green, Blue (RGB); Millicandela Rating: 160mcd Red, 250mcd Green, 52mcd Blue; Lens Style/Size: Rectangle with Flat Top, 2.80mm x 0.35mm; Voltage - Forward (Vf) (Typ): 1.85V Red, 2.7V Green, 2.75V Blue; Current - Test: 5mA Red, 5mA Green, 5mA Blue; Wavelength - Dominant: 628nm Red, 530nm Green, 470nm Blue; Supplier 1: Digi-Key; RoHS: RoHS Compliant; Category: Optoelectronics; Stock 1: 5632; Pricing 1: 1=1.28, 10=1.037, 25=0.7976, 100=0.7178, 250=0.638, 500=0.5423, 1000=0.4466 (USD); Packaging: Cut Tape (CT); Part Status: Active; Lens Color: -; Lens Transparency: -; Viewing Angle: -; Mounting Type: Surface Mount, Right Angle; Wavelength - Peak: -; Features: -; Package / Case: 4-SMD, No Lead; Supplier Device Package: -; Height (Max): 0.35mm; ComponentLink1URL: http://media.digikey.com/pdf/Data%20Sheets/Citizen%20PDFs/CL-426_Web.pdf; ComponentLink1Description: http://media.digikey.com/pdf/Data%20Sheets/Citizen%20PDFs/CL-426_Web.pdf; Supplier Part Number 1: 1642-1512-1-ND
footprint CL-426F-AA-SD-TS
pins: 1 (power) "C1", 2 (power) "C1", 4 (power) "A3", 5 (power) "C1"

## CONN SSL RCPT 4POS 2MM SOLDER
designator CON?, comment 009159004551906
SSL Connector 4 Position Receptacle Board to Board - Card Edge 0.079" (2.00mm) Solder; Manufacturer: Kyocera AVX; Description: Board to Board & Mezzanine Connectors Top Mount Card Edge 4POS; Voltage Rating: 300V; Current Rating: 2A; Mating Cycles: 10; Number of Positions: 4; Pitch: 0.079inch; Row Spacing: 6.5mm; Supplier 1: Digi-Key; Stock 1: 2516; Pricing 1: 1 = 1.01000, 10 = 0.89200, 25 = 0.83960, 50 = 0.80460, 100 = 0.76960, 250 = 0.69960 (USD); RoHS: Yes; Mount: Surface Mount; Contact Material: Copper Alloy; Contact Plating: Gold; Housing Color: White; Housing Material: Nylon; Min Operating Temperature: -40°C; Max Operating Temperature: 120°C; Number of Rows: 1; Packaging: Tape and Reel; Package Quantity: 900; Connector Type: Receptacle; Termination: SMD/SMT; Gender: Receptacle; Number of Contacts: 4; REACH SVHC: No SVHC; ComponentLink1URL: https://datasheet.ciiva.com/29706/topentrycardedge-29706485.pdf?src-supplier=Digi-Key; ComponentLink1Description: https://datasheet.ciiva.com/29706/topentrycardedge-29706485.pdf?src-supplier=Digi-Key; Supplier Part Number 1: 478-8738-1-ND; Manufacturer Part Number: 009159004551906
footprint AVX-9159-4-PIN-EDGE
pins: P$1, P$2, P$3, P$4

## CRCW08051R00JNEAHP
designator R?, comment RES SMD 1 OHM 5% 1/2W 0805  Case/Package: 0805  Resistance: 1R
1 Ohms ±5% 0.5W, 1/2W Chip Resistor 0805 (2012 Metric) Automotive AEC-Q200, Pulse Withstanding Thick Film; Manufacturer: Vishay Dale; Manufacturer Part Number: CRCW08051R00JNEAHP; Temperature Coefficient: 200ppm/°C; Power Rating: 500mW; Voltage Rating: 150V; Supplier 1: Digi-Key; Stock 1: 69781; Pricing 1: 1 = 0.39000, 10 = 0.33300, 100 = 0.13010, 1000 = 0.05445, 2500 = 0.04991 (USD); RoHS: Yes; Weight: 0.000194oz; Contact Plating: Tin; Case Code (Imperial): 0805; Case Code (Metric): 2012; Min Operating Temperature: -55°C; Max Operating Temperature: 155°C; Tolerance: 5%; Composition: Thick Film; Packaging: Tape and Reel; Package Quantity: 5000; Termination: SMD/SMT; Military Standard: Not; Length: 2mm; Height: 0.5mm; Width: 1.2mm; Depth: 1.25mm; Radiation Hardening: No; Lead Free: Lead Free; ComponentLink1URL: https://datasheet.ciiva.com/17204/crcwhpe3-17204266.pdf?src-supplier=Avnet+Europe; ComponentLink1Description: https://datasheet.ciiva.com/17204/crcwhpe3-17204266.pdf?src-supplier=Avnet+Europe; ComponentLink2URL: https://datasheet.ciiva.com/9109/crcwhpe3-9109801.pdf?src-supplier=Avnet; ComponentLink2Description: https://datasheet.ciiva.com/9109/crcwhpe3-9109801.pdf?src-supplier=Avnet; ComponentLink3URL: https://datasheet.ciiva.com/5547/crcwhpe3-46056-5547419.pdf?src-supplier=Mouser; ComponentLink3Description: https://datasheet.ciiva.com/5547/crcwhpe3-46056-5547419.pdf?src-supplier=Mouser; Supplier Part Number 1: 541-1.0TACT-ND
footprint 0805
pins: P$1, P$2

## CRCW060310K0FKEA
designator R?, comment RES SMD 10K OHM 1% 1/10W 0603  Resistance: 10kR  Case/Package: 0603
10 kOhms ±1% 0.1W, 1/10W Chip Resistor 0603 (1608 Metric) Automotive AEC-Q200 Thick Film; Manufacturer: Vishay; Manufacturer Part Number: CRCW060310K0FKEAHP; Temperature Coefficient: 100ppm/°C; Power Rating: 250mW; Voltage Rating: 75V; Supplier 1: Digi-Key; Stock 1: 0; Pricing 1: 1 = 0.18000, 10 = 0.15600, 100 = 0.06090, 1000 = 0.02548, 2500 = 0.02336 (USD); RoHS: Yes; Weight: 7.1E-05oz; Contact Plating: Tin; Case Code (Metric): 1608; Case Code (Imperial): 0603; Min Operating Temperature: -55°C; Max Operating Temperature: 155°C; Tolerance: 1%; Composition: Thick Film; Packaging: Tape and Reel; Package Quantity: 10; Number of Terminations: 2; Termination: SMD/SMT; Military Standard: Not; Voltage Rating (DC): 75V; Max Power Dissipation: 250mW; Features: Automotive AEC-Q200; Length: 1.6mm; Height: 0.45mm; Width: 0.033inch; Depth: 0.85mm; Radiation Hardening: No; Lead Free: Lead Free; REACH SVHC: Unknown; ComponentLink1URL: https://datasheet.ciiva.com/2472/crcwhpe3-2472534.pdf?src-supplier=Digi-Key; ComponentLink1Description: https://datasheet.ciiva.com/2472/crcwhpe3-2472534.pdf?src-supplier=Digi-Key; ComponentLink2URL: https://datasheet.ciiva.com/9052/crcwhpe3-9052617.pdf?src-supplier=Avnet; ComponentLink2Description: https://datasheet.ciiva.com/9052/crcwhpe3-9052617.pdf?src-supplier=Avnet; ComponentLink3URL: https://datasheet.ciiva.com/3256/crcwhpe3-3256941.pdf?src-supplier=Avnet; ComponentLink3Description: https://datasheet.ciiva.com/3256/crcwhpe3-3256941.pdf?src-supplier=Avnet; ComponentLink4URL: https://datasheet.ciiva.com/28588/1912814-28588878.pdf?src-supplier=Element14; ComponentLink4Description: https://datasheet.ciiva.com/28588/1912814-28588878.pdf?src-supplier=Element14; ComponentLink5URL: https://datasheet.ciiva.com/5548/crcwhpe3-46056-5548143.pdf?src-supplier=Mouser; ComponentLink5Description: https://datasheet.ciiva.com/5548/crcwhpe3-46056-5548143.pdf?src-supplier=Mouser; ComponentLink6URL: https://datasheet.ciiva.com/2472/crcwhpe3-2472532.pdf?src-supplier=Digi-Key; ComponentLink6Description: https://datasheet.ciiva.com/2472/crcwhpe3-2472532.pdf?src-supplier=Digi-Key; ComponentLink7URL: https://datasheet.ciiva.com/2472/crcwhpe3-2472533.pdf?src-supplier=Digi-Key; ComponentLink7Description: https://datasheet.ciiva.com/2472/crcwhpe3-2472533.pdf?src-supplier=Digi-Key; Supplier Part Number 1: 541-10.0KSCT-ND
footprint 0402
pins: P$1, P$2

## CRCW060310R0FKEAC
designator R?, comment RES SMD 10 OHM 1% 1/10W 0603  Resistance: 10R  Case/Package: 0603
10 Ohms ±1% 0.1W, 1/10W Chip Resistor 0603 (1608 Metric)  Thick Film; Manufacturer: Vishay; Manufacturer Part Number: CRCW060310R0FKEAC; Power Rating: 100mW; Supplier 1: Digi-Key; Stock 1: 794480; Pricing 1: 1 = 0.10000, 10 = 0.03800, 100 = 0.01550, 1000 = 0.00694, 2500 = 0.00603 (USD); RoHS: No; Tolerance: 1%; Lead Free: Lead Free; ComponentLink1URL: http://www.vishay.com/docs/28773/crcwce3.pdf?src-supplier=Digi-Key; ComponentLink1Description: http://www.vishay.com/docs/28773/crcwce3.pdf?src-supplier=Digi-Key; Supplier Part Number 1: 541-3952-1-ND
footprint 0603
pins: P$1, P$2

## CRCW060330K1FKEAHP
designator R?, comment RES SMD 30.1K OHM 1% 1/4W 0603  Resistance: 30.1kR  Case/Package: 0603
30.1 kOhms ±1% 0.25W, 1/4W Chip Resistor 0603 (1608 Metric) Automotive AEC-Q200, Pulse Withstanding Thick Film; Manufacturer: Vishay Dale; Manufacturer Part Number: CRCW060330K1FKEAHP; Max Power Dissipation: 250mW; Temperature Coefficient: 100ppm/°C; Supplier 1: Digi-Key; Stock 1: 3489; Pricing 1: 1 = 0.18000, 10 = 0.15600, 100 = 0.06090, 1000 = 0.02548, 2500 = 0.02336 (USD); RoHS: Yes; Case Code (Imperial): 0603; Min Operating Temperature: -55°C; Max Operating Temperature: 155°C; Package Quantity: 5000; Tolerance: 1%; Packaging: Tape and Reel; Composition: Thick Film; Number of Terminations: 2; Features: Automotive AEC-Q200; Length: 0.063inch; Height: 0.022inch; Width: 0.033inch; Lead Free: Lead Free; ComponentLink1URL: https://datasheet.ciiva.com/2576/crcwhpe3-2576899.pdf?src-supplier=Digi-Key; ComponentLink1Description: https://datasheet.ciiva.com/2576/crcwhpe3-2576899.pdf?src-supplier=Digi-Key; Supplier Part Number 1: 541-30.1KSCT-ND; Case Code (Metric): 1608
footprint 0603
pins: P$1, P$2

## CRCW0603300KFKEA
designator R?, comment RES SMD 300K OHM 1% 1/10W 0603  Case/Package: 0603  Resistance: 300kR
300 kOhms ±1% 0.1W, 1/10W Chip Resistor 0603 (1608 Metric) Automotive AEC-Q200 Thick Film; Manufacturer: Vishay; Manufacturer Part Number: CRCW0603300KFKEA; Power Rating: 100mW; Temperature Coefficient: 100ppm/°C; Voltage Rating: 75V; Supplier 1: Digi-Key; Stock 1: 107718; Pricing 1: 1 = 0.10000, 10 = 0.04200, 100 = 0.01700, 1000 = 0.00764, 2500 = 0.00663 (USD); RoHS: Yes; Mount: Surface Mount; Number of Pins: 2; Weight: 7.1E-05oz; Contact Plating: Tin; Case Code (Metric): 1608; Case Code (Imperial): 0603; Min Operating Temperature: -55°C; Max Operating Temperature: 155°C; Tolerance: 1%; Composition: Thick Film; Packaging: Tape and Reel; Termination: SMD/SMT; Package Quantity: 10; Number of Terminations: 2; Max Power Dissipation: 100mW; Features: Automotive AEC-Q200; Military Standard: Not; Voltage Rating (DC): 75V; Length: 1.55mm; Height: 0.45mm; Width: 0.033inch; Depth: 0.85mm; Radiation Hardening: No; Lead Free: Lead Free; REACH SVHC: Unknown; ComponentLink1URL: https://datasheet.ciiva.com/11818/0900766b80d98afc-11818169.pdf?src-supplier=RSComponents; ComponentLink1Description: https://datasheet.ciiva.com/11818/0900766b80d98afc-11818169.pdf?src-supplier=RSComponents; ComponentLink2URL: https://datasheet.ciiva.com/7674/1533075-7674214.pdf?src-supplier=Element14; ComponentLink2Description: https://datasheet.ciiva.com/7674/1533075-7674214.pdf?src-supplier=Element14; ComponentLink3URL: https://datasheet.ciiva.com/16784/70201119-16784232.pdf?src-supplier=Allied+Electronics; ComponentLink3Description: https://datasheet.ciiva.com/16784/70201119-16784232.pdf?src-supplier=Allied+Electronics; ComponentLink4URL: https://datasheet.ciiva.com/26317/fld-crcw-e3-data-en-26317176.pdf?src-supplier=Distrelec; ComponentLink4Description: https://datasheet.ciiva.com/26317/fld-crcw-e3-data-en-26317176.pdf?src-supplier=Distrelec; ComponentLink5URL: https://datasheet.ciiva.com/2466/dcrcwe3-2466316.pdf?src-supplier=Digi-Key; ComponentLink5Description: https://datasheet.ciiva.com/2466/dcrcwe3-2466316.pdf?src-supplier=Digi-Key; ComponentLink6URL: https://datasheet.ciiva.com/5549/dcrcwe3-109170-5549837.pdf?src-supplier=Mouser; ComponentLink6Description: https://datasheet.ciiva.com/5549/dcrcwe3-109170-5549837.pdf?src-supplier=Mouser; ComponentLink7URL: https://datasheet.ciiva.com/7674/1697337-7674069.pdf?src-supplier=Element14; ComponentLink7Description: https://datasheet.ciiva.com/7674/1697337-7674069.pdf?src-supplier=Element14; ComponentLink8URL: https://datasheet.ciiva.com/16893/dcrcwe3-16893193.pdf?src-supplier=Avnet+Europe; ComponentLink8Description: https://datasheet.ciiva.com/16893/dcrcwe3-16893193.pdf?src-supplier=Avnet+Europe; ComponentLink9URL: https://datasheet.ciiva.com/2466/dcrcwe3-2466314.pdf?src-supplier=Digi-Key; ComponentLink9Description: https://datasheet.ciiva.com/2466/dcrcwe3-2466314.pdf?src-supplier=Digi-Key; ComponentLink10URL: https://datasheet.ciiva.com/2466/dcrcwe3-2466315.pdf?src-supplier=Digi-Key; ComponentLink10Description: https://datasheet.ciiva.com/2466/dcrcwe3-2466315.pdf?src-supplier=Digi-Key; Supplier Part Number 1: 541-300KHCT-ND
footprint 0603
pins: P$1, P$2

## CRCW06030000Z0EAC
designator R?, comment RES SMD 0 OHM JUMP 1/10W 0603  Resistance: 0mR  Case/Package: 0603
0 Ohms Jumper 0.1W, 1/10W Chip Resistor 0603 (1608 Metric)  Thick Film; Manufacturer: Vishay; Manufacturer Part Number: CRCW06030000Z0EA; Power Rating: 100mW; Voltage Rating: 75V; Tolerance: 5%; Temperature Coefficient: 100ppm/°C; Current Rating: 2A; Supplier 1: Digi-Key; Stock 1: 0; Pricing 1: 1 = 0.10000, 10 = 0.03400, 25 = 0.02440, 50 = 0.01860, 100 = 0.01380, 250 = 0.01048, 500 = 0.00840, 1000 = 0.00618 (USD); RoHS: Yes; Mount: Surface Mount; Weight: 7.1E-05oz; Contact Plating: Tin; Case Code (Metric): 1608; Case Code (Imperial): 0603; Min Operating Temperature: -55°C; Max Operating Temperature: 155°C; Composition: Thick Film; Termination: SMD/SMT; Packaging: Tape and Reel; Package Quantity: 1; Number of Terminations: 2; Military Standard: Not; Max Power Dissipation: 100mW; Voltage Rating (DC): 75V; Working Voltage: 75V; Features: Automotive AEC-Q200; Length: 1.55mm; Height: 0.02inch; Width: 0.033inch; Depth: 0.85mm; Radiation Hardening: No; Lead Free: Lead Free; REACH SVHC: Unknown; ComponentLink1URL: https://datasheet.ciiva.com/2461/dcrcwe3-2461968.pdf?src-supplier=Digi-Key; ComponentLink1Description: https://datasheet.ciiva.com/2461/dcrcwe3-2461968.pdf?src-supplier=Digi-Key; ComponentLink2URL: https://datasheet.ciiva.com/2461/dcrcwe3-2461969.pdf?src-supplier=Digi-Key; ComponentLink2Description: https://datasheet.ciiva.com/2461/dcrcwe3-2461969.pdf?src-supplier=Digi-Key; ComponentLink3URL: https://datasheet.ciiva.com/2461/dcrcwe3-2461970.pdf?src-supplier=Digi-Key; ComponentLink3Description: https://datasheet.ciiva.com/2461/dcrcwe3-2461970.pdf?src-supplier=Digi-Key; ComponentLink4URL: https://datasheet.ciiva.com/8340/dcrcwe3-8340197.pdf?src-supplier=Avnet; ComponentLink4Description: https://datasheet.ciiva.com/8340/dcrcwe3-8340197.pdf?src-supplier=Avnet; ComponentLink5URL: https://datasheet.ciiva.com/16941/dcrcw-16941302.pdf?src-supplier=Avnet+Europe; ComponentLink5Description: https://datasheet.ciiva.com/16941/dcrcw-16941302.pdf?src-supplier=Avnet+Europe; ComponentLink6URL: https://datasheet.ciiva.com/16199/dcrcwe3-16199063.pdf?src-supplier=Future+Electronics; ComponentLink6Description: https://datasheet.ciiva.com/16199/dcrcwe3-16199063.pdf?src-supplier=Future+Electronics; ComponentLink7URL: https://datasheet.ciiva.com/16725/70201119-16725175.pdf?src-supplier=Allied+Electronics; ComponentLink7Description: https://datasheet.ciiva.com/16725/70201119-16725175.pdf?src-supplier=Allied+Electronics; ComponentLink8URL: https://datasheet.ciiva.com/26316/fld-crcw-e3-data-en-26316615.pdf?src-supplier=Distrelec; ComponentLink8Description: https://datasheet.ciiva.com/26316/fld-crcw-e3-data-en-26316615.pdf?src-supplier=Distrelec; ComponentLink9URL: https://datasheet.ciiva.com/5544/dcrcwe3-109170-5544344.pdf?src-supplier=Mouser; ComponentLink9Description: https://datasheet.ciiva.com/5544/dcrcwe3-109170-5544344.pdf?src-supplier=Mouser; ComponentLink10URL: https://datasheet.ciiva.com/7841/1720486-7841816.pdf?src-supplier=Element14; ComponentLink10Description: https://datasheet.ciiva.com/7841/1720486-7841816.pdf?src-supplier=Element14; ComponentLink11URL: https://datasheet.ciiva.com/7841/1720486-7841817.pdf?src-supplier=Element14; ComponentLink11Description: https://datasheet.ciiva.com/7841/1720486-7841817.pdf?src-supplier=Element14; ComponentLink12URL: https://datasheet.ciiva.com/7841/125364-7841818.pdf?src-supplier=Element14; ComponentLink12Description: https://datasheet.ciiva.com/7841/125364-7841818.pdf?src-supplier=Element14; ComponentLink13URL: https://datasheet.ciiva.com/16721/70201119-16721450.pdf?src-supplier=Allied+Electronics; ComponentLink13Description: https://datasheet.ciiva.com/16721/70201119-16721450.pdf?src-supplier=Allied+Electronics; Supplier Part Number 1: 541-0.0GCT-ND
footprint 0402
pins: P$1, P$2

## CRM1206-FX-10R0ELF
designator R?, comment RES SMD 10 OHM 1% 1/2W 1206  Case/Package: 1206  Resistance: 10R
10 Ohms ±1% 0.5W, 1/2W Chip Resistor 1206 (3216 Metric) Current Sense Thick Film; Manufacturer: Bourns; Manufacturer Part Number: CRM1206-FX-10R0ELF; Description: BOURNS   CRM1206-FX-10R0ELF   SMD Current Sense Resistor, CRM Series, 10 ohm, 500 mW,  1%, 1206 [3216 Metric]; Power Rating: 500mW; Voltage Rating: 200V; Temperature Coefficient: 100ppm/°C; Supplier 1: Digi-Key; Stock 1: 663389; Pricing 1: 1 = 0.14000, 10 = 0.12100, 25 = 0.08760, 50 = 0.06360, 100 = 0.04720, 250 = 0.03620, 500 = 0.02852, 1000 = 0.01975 (USD); RoHS: Yes; Number of Pins: 2; Case Code (Metric): 3216; Case Code (Imperial): 1206; Min Operating Temperature: -55°C; Max Operating Temperature: 155°C; Packaging: Tape and Reel; Tolerance: 1%; Package Quantity: 1; Composition: Thick Film; Number of Terminations: 2; Military Standard: Not; Max Power Dissipation: 500mW; Voltage Rating (DC): 200V; Length: 3.1mm; Height: 0.026inch; Width: 0.063inch; Depth: 1.6mm; REACH SVHC: No SVHC; ComponentLink1URL: https://datasheet.ciiva.com/7985/1859481-7985941.pdf?src-supplier=Element14; ComponentLink1Description: https://datasheet.ciiva.com/7985/1859481-7985941.pdf?src-supplier=Element14; ComponentLink2URL: https://datasheet.ciiva.com/22693/1859481-22693291.pdf?src-supplier=Element14; ComponentLink2Description: https://datasheet.ciiva.com/22693/1859481-22693291.pdf?src-supplier=Element14; ComponentLink3URL: https://datasheet.ciiva.com/6550/crm0805-1206-2010-6550028.pdf?src-supplier=Digi-Key; ComponentLink3Description: https://datasheet.ciiva.com/6550/crm0805-1206-2010-6550028.pdf?src-supplier=Digi-Key; ComponentLink4URL: https://datasheet.ciiva.com/6550/crm0805-1206-2010-6550031.pdf?src-supplier=Digi-Key; ComponentLink4Description: https://datasheet.ciiva.com/6550/crm0805-1206-2010-6550031.pdf?src-supplier=Digi-Key; ComponentLink5URL: https://datasheet.ciiva.com/48692/001055576-da-01-en-wid-crm1206-fx-10r0elf-10-ohm-1-2w-1-48692299.pdf?src-supplier=Conrad; ComponentLink5Description: https://datasheet.ciiva.com/48692/001055576-da-01-en-wid-crm1206-fx-10r0elf-10-ohm-1-2w-1-48692299.pdf?src-supplier=Conrad; Supplier Part Number 1: CRM1206-FX-10R0ELFCT-ND
footprint 1206
pins: P$1, P$2